# Altium footprint library DFN.PcbLib: 24 footprints (part 1 of 2)
Each footprint in its own frame and in the unit in brackets; x right, y up, seen from the top. Pads: shape width x height; smd on the part's side, far side on the other; paste and mask are expansions set on the pad; w line width, h text height; cw(c..) or ccw(c..) is an arc to the next point about the centre after c.
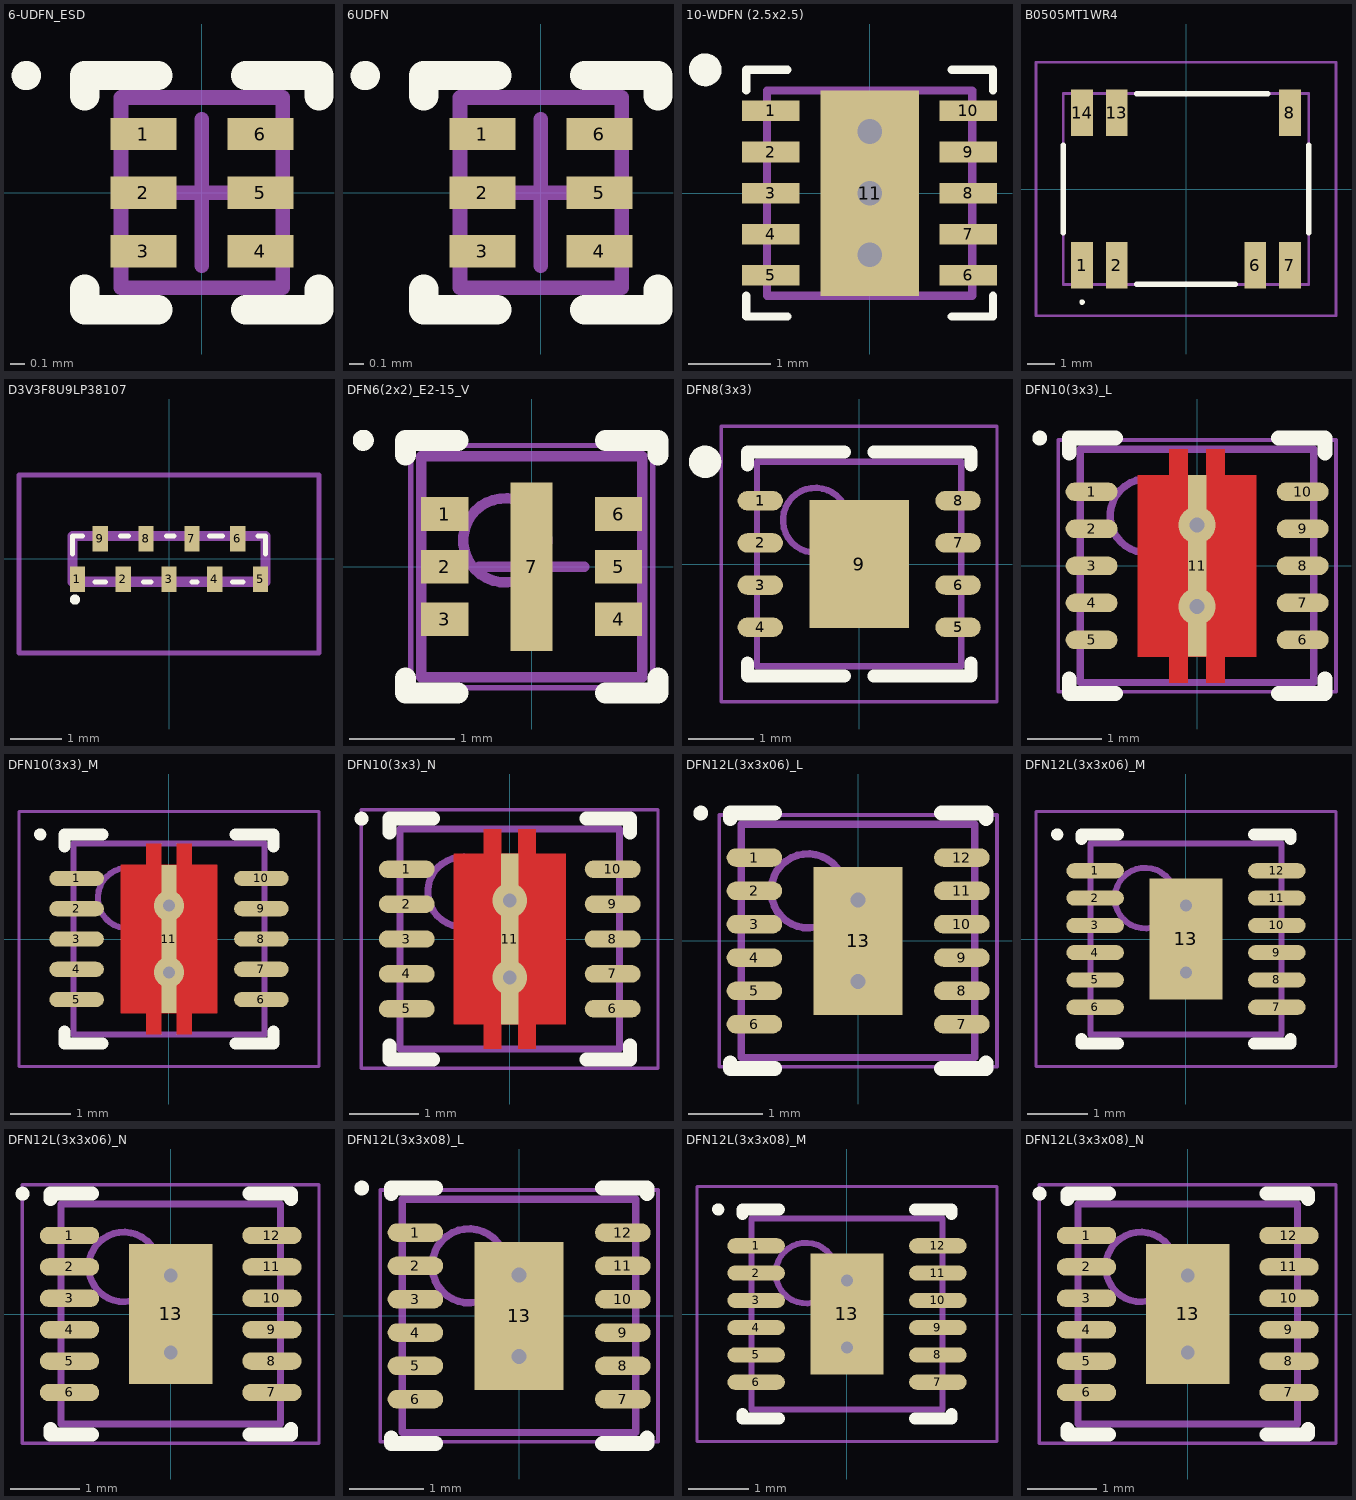
[diagram p0: the footprints below, top view; thin cyan lines are the x and y axes]

## 6-UDFN_ESD [mm]
pads (6):
  rect 0.45x0.22 smd: 1(-0.4,0.4) 2(-0.4,0) 3(-0.4,-0.4) 4(0.4,-0.4) 5(0.4,0) 6(0.4,0.4)
Top Overlay:
  circle w0.1: c-1.2,0.8 r0.05
  lines w0.2: -0.8,-0.66 -0.8,-0.8 -0.3,-0.8 ; -0.8,0.66 -0.8,0.8 -0.3,0.8 ; 0.3,-0.8 0.8,-0.8 0.8,-0.66 ; 0.3,0.8 0.8,0.8 0.8,0.66
Mechanical 13:
  lines w0.1: -0.553,-0.65 -0.553,0.65 0.554,0.65 0.554,-0.65 -0.553,-0.65
Mechanical 15:
  lines w0.05: -0.553,-0.65 -0.553,0.65 0.554,0.65 0.554,-0.65 -0.553,-0.65
  lines w0.1: -0.5,0 0.5,0 ; 0,-0.5 0,0.5
3D body "SLP1210N6.step": height 0.65, standoff 0, extent -0.553,-0.65 0.554,0.65

## 6UDFN [mm]
pads (6):
  rect 0.45x0.22 smd: 1(-0.4,0.4) 2(-0.4,0) 3(-0.4,-0.4) 4(0.4,-0.4) 5(0.4,0) 6(0.4,0.4)
Top Overlay:
  circle w0.1: c-1.2,0.8 r0.05
  lines w0.2: -0.8,-0.66 -0.8,-0.8 -0.3,-0.8 ; -0.8,0.66 -0.8,0.8 -0.3,0.8 ; 0.3,-0.8 0.8,-0.8 0.8,-0.66 ; 0.3,0.8 0.8,0.8 0.8,0.66
Mechanical 13:
  lines w0.1: -0.553,-0.65 -0.553,0.65 0.554,0.65 0.554,-0.65 -0.553,-0.65
Mechanical 15:
  lines w0.05: -0.553,-0.65 -0.553,0.65 0.554,0.65 0.554,-0.65 -0.553,-0.65
  lines w0.1: -0.5,0 0.5,0 ; 0,-0.5 0,0.5
3D body "SLP1210N6.step": height 0.65, standoff 0, extent -0.553,-0.65 0.554,0.65

## 10-WDFN (2.5x2.5) [mm]
height 0.8
pads (11):
  rect 0.7x0.25 smd: 1(-1.2,1) 2(-1.2,0.5) 3(-1.2,0) 4(-1.2,-0.5) 5(-1.2,-1) 6(1.2,-1) 7(1.2,-0.5) 8(1.2,0) 9(1.2,0.5) 10(1.2,1)
  rect 1.2x2.5 smd: 11(0,0)
via 0,0 diameter 0.6 hole 0.3
via 0,0.75 diameter 0.6 hole 0.3
via 0,-0.75 diameter 0.6 hole 0.3
Top Overlay:
  circle w0.2: c-2,1.5 r0.1
  lines w0.1: -1.5,-1.25 -1.5,-1.5 -1,-1.5 ; -1.5,1.25 -1.5,1.5 -1,1.5 ; 1,-1.5 1.5,-1.5 1.5,-1.25 ; 1,1.5 1.5,1.5 1.5,1.25
Mechanical 13:
  lines w0.1: -1.25,-1.25 1.25,-1.25 1.25,1.25 -1.25,1.25 -1.25,-1.25
Mechanical 15:
  lines w0.1: -0.5,0 0.5,0 ; -0.25,-0.25 0.25,0.25 ; -0.25,0.25 0.25,-0.25
3D body: height 0.8, standoff 0.05, extent -1.25,-1.25 1.25,1.25

## B0505MT1WR4 [mm]
pads (7):
  rect 0.8x1.7 smd: 1(-3.81,-2.8) 2(-2.54,-2.8) 6(2.54,-2.8) 7(3.81,-2.8) 8(3.81,2.8) 13(-2.54,2.8) 14(-3.81,2.8)
Top Overlay:
  lines w0.1: -3.81,-4.2 cw(c-3.81,-4.15) -3.81,-4.1 cw(c-3.81,-4.15) -3.81,-4.2
  lines w0.2: -4.5,-1.6 -4.5,1.6 ; -1.8,-3.5 1.8,-3.5 ; -1.8,3.5 3,3.5 ; 4.5,-1.6 4.5,1.6
Mechanical 13:
  lines w0.1: -4.5,-3.5 -4.5,3.5 4.5,3.5 4.5,-3.5 -4.5,-3.5
Mechanical 15:
  lines w0.1: -5.5,-4.65 -5.5,4.65 5.5,4.65 5.5,-4.65 -5.5,-4.65
3D body "B0505MT-1WR4.stp": height 3.5, standoff 0, extent -4.5,-3.57 4.5,3.57

## D3V3F8U9LP38107 [mm]
pads (9):
  rect 0.3x0.5 smd: 1(-1.8,-0.4) 2(-0.9,-0.4) 3(0,-0.4) 4(0.9,-0.4) 5(1.8,-0.4) 6(1.35,0.4) 7(0.45,0.4) 8(-0.45,0.4) 9(-1.35,0.4)
Top Overlay:
  lines w0.1: -1.9,0.1 -1.9,0.45 -1.7,0.45 ; -1.45,-0.45 -1.25,-0.45 ; -0.95,0.45 -0.8,0.45 ; -0.5,-0.45 -0.35,-0.45 ; -0.05,0.45 0.1,0.45 ; 0.45,-0.45 0.55,-0.45 ; 0.8,0.45 1.05,0.45 ; 1.25,-0.45 1.45,-0.45 ; 1.75,0.45 1.9,0.45 1.9,0.1 ; -1.9,-0.8 cw(c-1.85,-0.8) -1.8,-0.8 cw(c-1.85,-0.8) -1.9,-0.8
Mechanical 13:
  lines w0.2: -1.9,-0.45 -1.9,0.45 1.9,0.45 1.9,-0.45 -1.9,-0.45
Mechanical 15:
  lines w0.1: -2.95,-1.85 -2.95,1.65 ; -2.95,-1.85 2.95,-1.85 ; -2.95,-1.85 -2.95,1.65 ; -2.95,-1.85 2.95,-1.85 ; -2.95,1.65 2.95,1.65 ; -2.95,1.65 2.95,1.65 ; 2.95,-1.85 2.95,1.65 ; 2.95,-1.85 2.95,1.65
3D body "D3V3F8U9LP3810-7.stp": height 0.65, standoff 0, extent -1.9,-0.45 1.9,0.45

## DFN6(2x2)_E2-15_V [mm] "SON, 6-Leads, Body 2x2 mm, Pitch 0.5mm, Thermal Pad 1.6x0.4mm, ST Recommended"
height 0.8
pads (7):
  rect 0.45x0.32 smd: 1(-0.825,0.5) 2(-0.825,0) 3(-0.825,-0.5) 4(0.825,-0.5) 5(0.825,0) 6(0.825,0.5)
  rect 0.4x1.6 smd: 7(0,0)
Top Overlay:
  circle w0.1: c-1.6,1.2 r0.05
  lines w0.2: -1.2,-1.06 -1.2,-1.2 -0.7,-1.2 ; -1.2,1.06 -1.2,1.2 -0.7,1.2 ; 0.7,-1.2 1.2,-1.2 1.2,-1.06 ; 0.7,1.2 1.2,1.2 1.2,1.06
Mechanical 13:
  circle w0.1: c-0.25,0.25 r0.4
  lines w0.1: -1.05,-1.05 1.05,-1.05 1.05,1.05 -1.05,1.05 -1.05,-1.05
Mechanical 15:
  lines w0.05: -1.15,-1.15 1.15,-1.15 1.15,1.15 -1.15,1.15 -1.15,-1.15
  lines w0.1: -0.5,0 0.5,0 ; 0,-0.5 0,0.5
3D body "User Library-My-DFN-6-2x2-0_5.STEP": height 0.8, standoff 0, extent -1.06,-1.05 1.06,1.05

## DFN8(3x3) [mm] "QFN, 8-Leads, Body 3,00x3,00mm, Pitch 0,65mm, Thermal Pad 1,53x1,97mm, IPC Medium Density"
height 0.65
pads (9):
  oval 0.7x0.3 smd: 1(-1.525,0.975) 2(-1.525,0.325) 3(-1.525,-0.325) 4(-1.525,-0.975) 5(1.525,-0.975) 6(1.525,-0.325) 7(1.525,0.325) 8(1.525,0.975)
  rect 1.53x1.97 smd: 9(0,0)
Top Overlay:
  circle w0.25: c-2.375,1.575 r0.125
  lines w0.2: -1.725,-1.525 -1.725,-1.725 -0.225,-1.725 ; -1.725,1.525 -1.725,1.725 -0.225,1.725 ; 0.225,-1.725 1.725,-1.725 1.725,-1.525 ; 0.225,1.725 1.725,1.725 1.725,1.525
Mechanical 13:
  circle w0.1: c-0.675,0.675 r0.5
  lines w0.1: -1.575,-1.575 1.575,-1.575 1.575,1.575 -1.575,1.575 -1.575,-1.575
Mechanical 15:
  lines w0.05: -2.125,-2.125 2.125,-2.125 2.125,2.125 -2.125,2.125 -2.125,-2.125
  lines w0.1: -0.5,0 0.5,0 ; 0,-0.5 0,0.5
3D body "QFN65P300X300X65_HS-9N.step": height 0.65, standoff 0, extent -1.585,-1.575 1.585,1.575

## DFN10(3x3)_L [mm] "SON, 10-Leads, Body 3x3mm, Pitch 0.5mm, Thermal Pad 2.45x1.6mm, IPC High Density"
height 1
pads (11):
  oval 0.7x0.25 smd: 1(-1.425,1) 2(-1.425,0.5) 3(-1.425,0) 4(-1.425,-0.5) 5(-1.425,-1) 6(1.425,-1) 7(1.425,-0.5) 8(1.425,0) 9(1.425,0.5) 10(1.425,1)
  rect 0.25x2.45 smd paste+0 mask+0: 11(0,0)
via 0,0.55 diameter 0.5 hole 0.2
via 0,-0.55 diameter 0.5 hole 0.2
Top Layer:
  region: -0.8,-1.225 -0.375,-1.225 -0.375,-1.575 -0.125,-1.575 -0.125,-1.225 0.125,-1.225 0.125,-1.575 0.375,-1.575 0.375,-1.225 0.8,-1.225 0.8,1.225 0.375,1.225 0.375,1.575 0.125,1.575 0.125,1.225 -0.125,1.225 -0.125,1.575 -0.375,1.575 -0.375,1.225 -0.8,1.225
Top Overlay:
  circle w0.1: c-2.125,1.725 r0.05
  lines w0.2: -1.725,-1.525 -1.725,-1.725 -1.1,-1.725 ; -1.725,1.525 -1.725,1.725 -1.1,1.725 ; 1.1,-1.725 1.725,-1.725 1.725,-1.525 ; 1.1,1.725 1.725,1.725 1.725,1.525
Mechanical 13:
  circle w0.1: c-0.675,0.675 r0.5
  lines w0.1: -1.575,-1.575 -1.575,1.575 1.575,1.575 1.575,-1.575 -1.575,-1.575
Mechanical 15:
  lines w0.05: -1.875,-1.7 -1.875,1.7 1.875,1.7 1.875,-1.7 -1.875,-1.7
  lines w0.1: -0.5,0 0.5,0 ; 0,-0.5 0,0.5
3D body: height 1, standoff 0, extent -1.575,-1.575 1.575,1.575

## DFN10(3x3)_M [mm] "SON, 10-Leads, Body 3x3mm, Pitch 0.5mm, Thermal Pad 2.45x1.6mm, IPC Low Density"
height 1
pads (11):
  oval 0.9x0.25 smd: 1(-1.525,1) 2(-1.525,0.5) 3(-1.525,0) 4(-1.525,-0.5) 5(-1.525,-1) 6(1.525,-1) 7(1.525,-0.5) 8(1.525,0) 9(1.525,0.5) 10(1.525,1)
  rect 0.25x2.45 smd paste+0 mask+0: 11(0,0)
via 0,0.55 diameter 0.5 hole 0.2
via 0,-0.55 diameter 0.5 hole 0.2
Top Layer:
  region: -0.8,-1.225 -0.375,-1.225 -0.375,-1.575 -0.125,-1.575 -0.125,-1.225 0.125,-1.225 0.125,-1.575 0.375,-1.575 0.375,-1.225 0.8,-1.225 0.8,1.225 0.375,1.225 0.375,1.575 0.125,1.575 0.125,1.225 -0.125,1.225 -0.125,1.575 -0.375,1.575 -0.375,1.225 -0.8,1.225
Top Overlay:
  circle w0.1: c-2.125,1.725 r0.05
  lines w0.2: -1.725,-1.525 -1.725,-1.725 -1.1,-1.725 ; -1.725,1.525 -1.725,1.725 -1.1,1.725 ; 1.1,-1.725 1.725,-1.725 1.725,-1.525 ; 1.1,1.725 1.725,1.725 1.725,1.525
Mechanical 13:
  circle w0.1: c-0.675,0.675 r0.5
  lines w0.1: -1.575,-1.575 -1.575,1.575 1.575,1.575 1.575,-1.575 -1.575,-1.575
Mechanical 15:
  lines w0.05: -2.475,-2.1 -2.475,2.1 2.475,2.1 2.475,-2.1 -2.475,-2.1
  lines w0.1: -0.5,0 0.5,0 ; 0,-0.5 0,0.5
3D body: height 1, standoff 0, extent -1.575,-1.575 1.575,1.575

## DFN10(3x3)_N [mm] "SON, 10-Leads, Body 3x3mm, Pitch 0.5mm, Thermal Pad 2.45x1.6mm, IPC Medium Density"
height 1
pads (11):
  oval 0.8x0.25 smd: 1(-1.475,1) 2(-1.475,0.5) 3(-1.475,0) 4(-1.475,-0.5) 5(-1.475,-1) 6(1.475,-1) 7(1.475,-0.5) 8(1.475,0) 9(1.475,0.5) 10(1.475,1)
  rect 0.25x2.45 smd paste+0 mask+0: 11(0,0)
via 0,-0.55 diameter 0.5 hole 0.2
via 0,0.55 diameter 0.5 hole 0.2
Top Layer:
  region: -0.8,-1.225 -0.375,-1.225 -0.375,-1.575 -0.125,-1.575 -0.125,-1.225 0.125,-1.225 0.125,-1.575 0.375,-1.575 0.375,-1.225 0.8,-1.225 0.8,1.225 0.375,1.225 0.375,1.575 0.125,1.575 0.125,1.225 -0.125,1.225 -0.125,1.575 -0.375,1.575 -0.375,1.225 -0.8,1.225
Top Overlay:
  circle w0.1: c-2.125,1.725 r0.05
  lines w0.2: -1.725,-1.525 -1.725,-1.725 -1.1,-1.725 ; -1.725,1.525 -1.725,1.725 -1.1,1.725 ; 1.1,-1.725 1.725,-1.725 1.725,-1.525 ; 1.1,1.725 1.725,1.725 1.725,1.525
Mechanical 13:
  circle w0.1: c-0.675,0.675 r0.5
  lines w0.1: -1.575,-1.575 1.575,-1.575 1.575,1.575 -1.575,1.575 -1.575,-1.575
Mechanical 15:
  lines w0.05: -2.125,-1.85 2.125,-1.85 2.125,1.85 -2.125,1.85 -2.125,-1.85
  lines w0.1: -0.5,0 0.5,0 ; 0,-0.5 0,0.5
3D body "User Library-TDFN 10P.STEP": height 0.76, standoff 0, extent -1.51,-1.5 1.51,1.5

## DFN12L(3x3x06)_L [mm] "SON, 12-Leads, Body 3x3mm, Pitch 0.45mm, Thermal Pad 2x1.2mm, IPC High Density"
height 0.6
pads (13):
  oval 0.75x0.25 smd: 1(-1.4,1.125) 2(-1.4,0.675) 3(-1.4,0.225) 4(-1.4,-0.225) 5(-1.4,-0.675) 6(-1.4,-1.125) 7(1.4,-1.125) 8(1.4,-0.675) 9(1.4,-0.225) 10(1.4,0.225) 11(1.4,0.675) 12(1.4,1.125)
  rect 1.2x2 smd: 13(0,0)
via 0,0.55 diameter 0.5 hole 0.2
via 0,-0.55 diameter 0.5 hole 0.2
Top Overlay:
  circle w0.1: c-2.125,1.725 r0.05
  lines w0.2: -1.725,-1.65 -1.725,-1.725 -1.125,-1.725 ; -1.725,1.65 -1.725,1.725 -1.125,1.725 ; 1.125,-1.725 1.725,-1.725 1.725,-1.65 ; 1.125,1.725 1.725,1.725 1.725,1.65
Mechanical 13:
  circle w0.1: c-0.675,0.675 r0.5
  lines w0.1: -1.575,-1.575 -1.575,1.575 1.575,1.575 1.575,-1.575 -1.575,-1.575
Mechanical 15:
  lines w0.05: -1.875,-1.7 -1.875,1.7 1.875,1.7 1.875,-1.7 -1.875,-1.7
  lines w0.1: -0.5,0 0.5,0 ; 0,-0.5 0,0.5
3D body: height 0.6, standoff 0, extent -1.575,-1.575 1.575,1.575

## DFN12L(3x3x06)_M [mm] "SON, 12-Leads, Body 3x3mm, Pitch 0.45mm, Thermal Pad 2x1.2mm, IPC Low Density"
height 0.6
pads (13):
  oval 0.95x0.25 smd: 1(-1.5,1.125) 2(-1.5,0.675) 3(-1.5,0.225) 4(-1.5,-0.225) 5(-1.5,-0.675) 6(-1.5,-1.125) 7(1.5,-1.125) 8(1.5,-0.675) 9(1.5,-0.225) 10(1.5,0.225) 11(1.5,0.675) 12(1.5,1.125)
  rect 1.2x2 smd: 13(0,0)
via 0,0.55 diameter 0.5 hole 0.2
via 0,-0.55 diameter 0.5 hole 0.2
Top Overlay:
  circle w0.1: c-2.125,1.725 r0.05
  lines w0.2: -1.725,-1.65 -1.725,-1.725 -1.125,-1.725 ; -1.725,1.65 -1.725,1.725 -1.125,1.725 ; 1.125,-1.725 1.725,-1.725 1.725,-1.65 ; 1.125,1.725 1.725,1.725 1.725,1.65
Mechanical 13:
  circle w0.1: c-0.675,0.675 r0.5
  lines w0.1: -1.575,-1.575 -1.575,1.575 1.575,1.575 1.575,-1.575 -1.575,-1.575
Mechanical 15:
  lines w0.05: -2.475,-2.1 -2.475,2.1 2.475,2.1 2.475,-2.1 -2.475,-2.1
  lines w0.1: -0.5,0 0.5,0 ; 0,-0.5 0,0.5
3D body: height 0.6, standoff 0, extent -1.575,-1.575 1.575,1.575

## DFN12L(3x3x06)_N [mm] "SON, 12-Leads, Body 3x3mm, Pitch 0.45mm, Thermal Pad 2x1.2mm, IPC Medium Density"
height 0.6
pads (13):
  oval 0.85x0.25 smd: 1(-1.45,1.125) 2(-1.45,0.675) 3(-1.45,0.225) 4(-1.45,-0.225) 5(-1.45,-0.675) 6(-1.45,-1.125) 7(1.45,-1.125) 8(1.45,-0.675) 9(1.45,-0.225) 10(1.45,0.225) 11(1.45,0.675) 12(1.45,1.125)
  rect 1.2x2 smd: 13(0,0)
via 0,-0.55 diameter 0.5 hole 0.2
via 0,0.55 diameter 0.5 hole 0.2
Top Overlay:
  circle w0.1: c-2.125,1.725 r0.05
  lines w0.2: -1.725,-1.65 -1.725,-1.725 -1.125,-1.725 ; -1.725,1.65 -1.725,1.725 -1.125,1.725 ; 1.125,-1.725 1.725,-1.725 1.725,-1.65 ; 1.125,1.725 1.725,1.725 1.725,1.65
Mechanical 13:
  circle w0.1: c-0.675,0.675 r0.5
  lines w0.1: -1.575,-1.575 1.575,-1.575 1.575,1.575 -1.575,1.575 -1.575,-1.575
Mechanical 15:
  lines w0.05: -2.125,-1.85 2.125,-1.85 2.125,1.85 -2.125,1.85 -2.125,-1.85
  lines w0.1: -0.5,0 0.5,0 ; 0,-0.5 0,0.5
3D body: height 0.6, standoff 0, extent -1.575,-1.575 1.575,1.575

## DFN12L(3x3x08)_L [mm] "SON, 12-Leads, Body 3x3mm, Pitch 0.45mm, Thermal Pad 2x1.2mm, IPC High Density"
height 0.8
pads (13):
  oval 0.75x0.25 smd: 1(-1.4,1.125) 2(-1.4,0.675) 3(-1.4,0.225) 4(-1.4,-0.225) 5(-1.4,-0.675) 6(-1.4,-1.125) 7(1.4,-1.125) 8(1.4,-0.675) 9(1.4,-0.225) 10(1.4,0.225) 11(1.4,0.675) 12(1.4,1.125)
  rect 1.2x2 smd: 13(0,0)
via 0,0.55 diameter 0.5 hole 0.2
via 0,-0.55 diameter 0.5 hole 0.2
Top Overlay:
  circle w0.1: c-2.125,1.725 r0.05
  lines w0.2: -1.725,-1.65 -1.725,-1.725 -1.125,-1.725 ; -1.725,1.65 -1.725,1.725 -1.125,1.725 ; 1.125,-1.725 1.725,-1.725 1.725,-1.65 ; 1.125,1.725 1.725,1.725 1.725,1.65
Mechanical 13:
  circle w0.1: c-0.675,0.675 r0.5
  lines w0.1: -1.575,-1.575 -1.575,1.575 1.575,1.575 1.575,-1.575 -1.575,-1.575
Mechanical 15:
  lines w0.05: -1.875,-1.7 -1.875,1.7 1.875,1.7 1.875,-1.7 -1.875,-1.7
  lines w0.1: -0.5,0 0.5,0 ; 0,-0.5 0,0.5
3D body: height 0.8, standoff 0, extent -1.575,-1.575 1.575,1.575

## DFN12L(3x3x08)_M [mm] "SON, 12-Leads, Body 3x3mm, Pitch 0.45mm, Thermal Pad 2x1.2mm, IPC Low Density"
height 0.8
pads (13):
  oval 0.95x0.25 smd: 1(-1.5,1.125) 2(-1.5,0.675) 3(-1.5,0.225) 4(-1.5,-0.225) 5(-1.5,-0.675) 6(-1.5,-1.125) 7(1.5,-1.125) 8(1.5,-0.675) 9(1.5,-0.225) 10(1.5,0.225) 11(1.5,0.675) 12(1.5,1.125)
  rect 1.2x2 smd: 13(0,0)
via 0,-0.55 diameter 0.5 hole 0.2
via 0,0.55 diameter 0.5 hole 0.2
Top Overlay:
  circle w0.1: c-2.125,1.725 r0.05
  lines w0.2: -1.725,-1.65 -1.725,-1.725 -1.125,-1.725 ; -1.725,1.65 -1.725,1.725 -1.125,1.725 ; 1.125,-1.725 1.725,-1.725 1.725,-1.65 ; 1.125,1.725 1.725,1.725 1.725,1.65
Mechanical 13:
  circle w0.1: c-0.675,0.675 r0.5
  lines w0.1: -1.575,-1.575 1.575,-1.575 1.575,1.575 -1.575,1.575 -1.575,-1.575
Mechanical 15:
  lines w0.05: -2.475,-2.1 2.475,-2.1 2.475,2.1 -2.475,2.1 -2.475,-2.1
  lines w0.1: -0.5,0 0.5,0 ; 0,-0.5 0,0.5
3D body: height 0.8, standoff 0, extent -1.575,-1.575 1.575,1.575

## DFN12L(3x3x08)_N [mm] "SON, 12-Leads, Body 3x3mm, Pitch 0.45mm, Thermal Pad 2x1.2mm, IPC Medium Density"
height 0.8
pads (13):
  oval 0.85x0.25 smd: 1(-1.45,1.125) 2(-1.45,0.675) 3(-1.45,0.225) 4(-1.45,-0.225) 5(-1.45,-0.675) 6(-1.45,-1.125) 7(1.45,-1.125) 8(1.45,-0.675) 9(1.45,-0.225) 10(1.45,0.225) 11(1.45,0.675) 12(1.45,1.125)
  rect 1.2x2 smd: 13(0,0)
via 0,0.55 diameter 0.5 hole 0.2
via 0,-0.55 diameter 0.5 hole 0.2
Top Overlay:
  circle w0.1: c-2.125,1.725 r0.05
  lines w0.2: -1.725,-1.65 -1.725,-1.725 -1.125,-1.725 ; -1.725,1.65 -1.725,1.725 -1.125,1.725 ; 1.125,-1.725 1.725,-1.725 1.725,-1.65 ; 1.125,1.725 1.725,1.725 1.725,1.65
Mechanical 13:
  circle w0.1: c-0.675,0.675 r0.5
  lines w0.1: -1.575,-1.575 -1.575,1.575 1.575,1.575 1.575,-1.575 -1.575,-1.575
Mechanical 15:
  lines w0.05: -2.125,-1.85 -2.125,1.85 2.125,1.85 2.125,-1.85 -2.125,-1.85
  lines w0.1: -0.5,0 0.5,0 ; 0,-0.5 0,0.5
3D body: height 0.8, standoff 0, extent -1.575,-1.575 1.575,1.575